# Altium footprint library XH2.54.PcbLib: 64 footprints (part 2 of 4)
Each footprint in its own frame and in the unit in brackets; x right, y up, seen from the top. Pads: shape width x height; smd on the part's side, far side on the other; paste and mask are expansions set on the pad; w line width, h text height; cw(c..) or ccw(c..) is an arc to the next point about the centre after c.
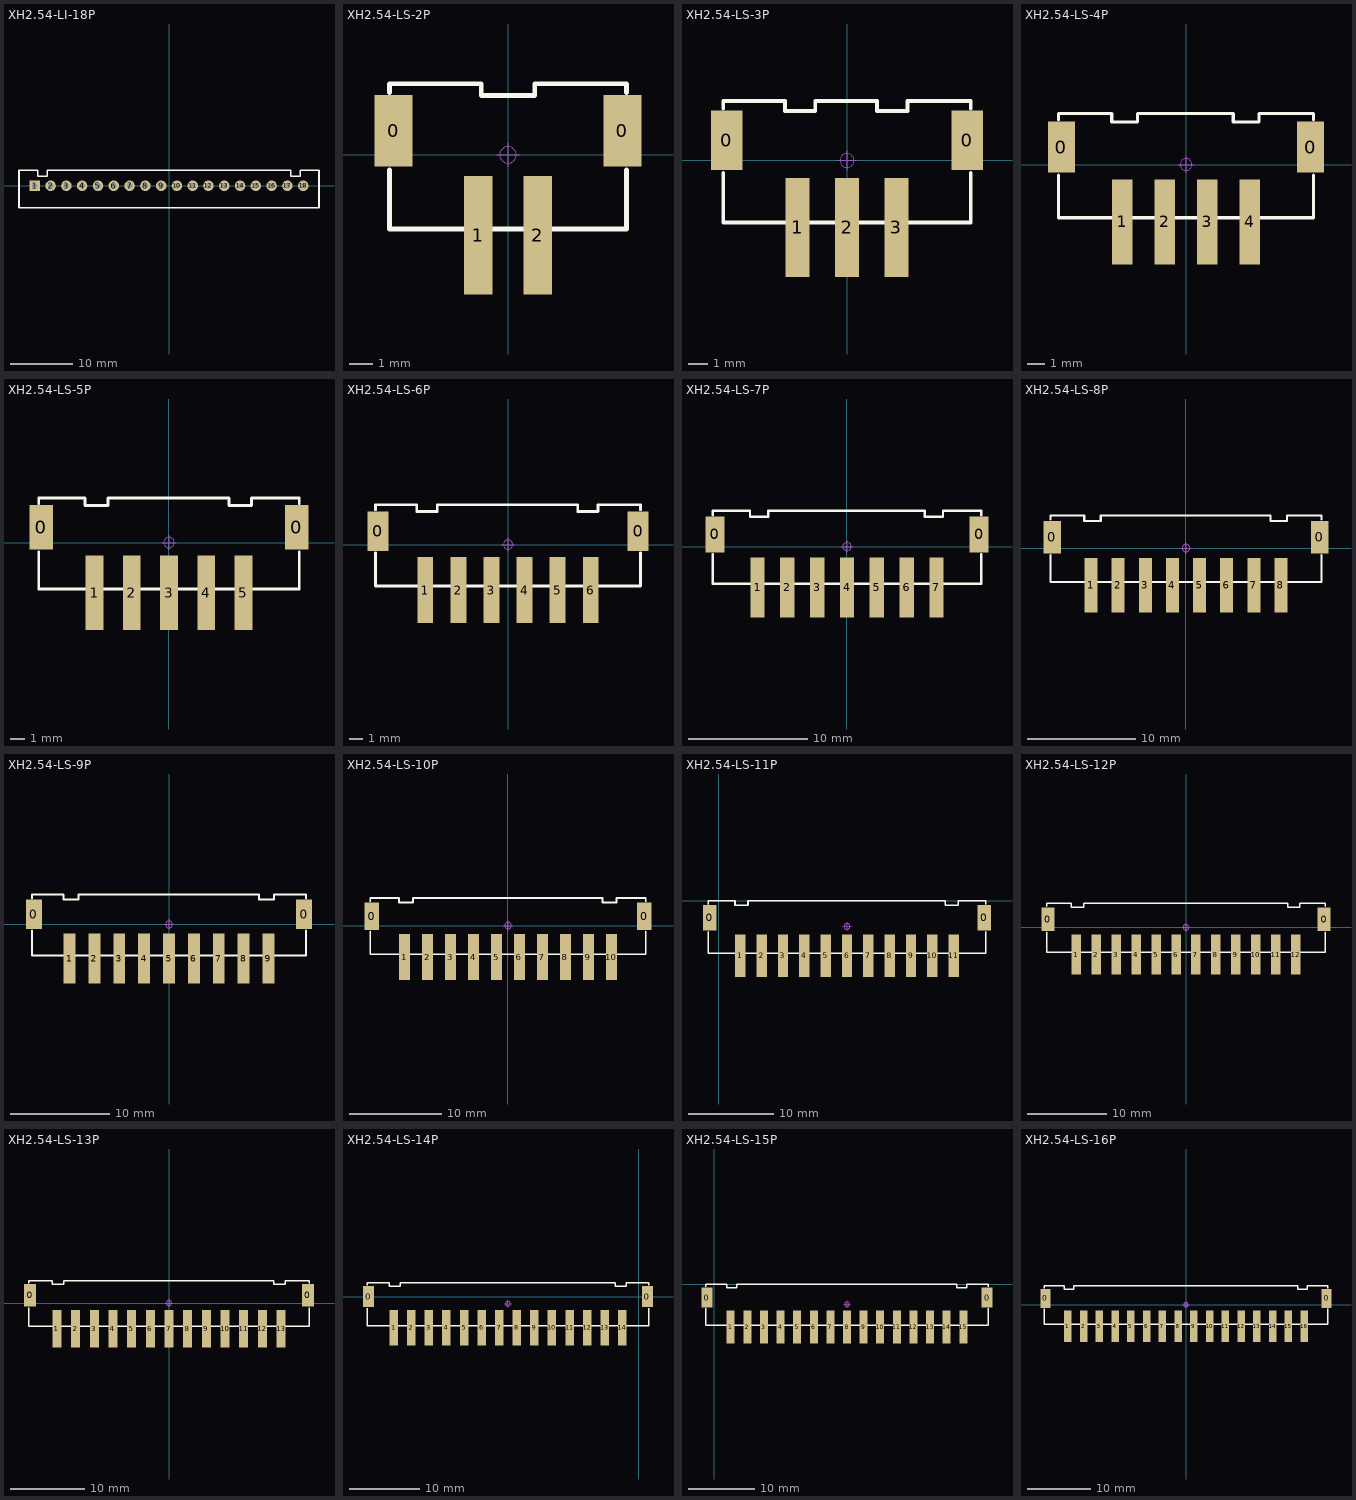
[diagram p1: the footprints below, top view; thin cyan lines are the x and y axes]

## XH2.54-LI-18P [mm] "接插件，18P"
pads (18):
  rect 1.7x1.7 hole 0.9: 1(-21.594,0)
  round 1.7 hole 0.9: 2(-19.042,0.013) 3(-16.502,0.013) 4(-13.974,0.019) 5(-11.422,0.013) 6(-8.882,0.013) 7(-6.342,0.013) 8(-3.802,0.013) 9(-1.262,0.013) 10(1.278,0.013) 11(3.806,0) 12(6.346,0) 13(8.89,0) 14(11.43,0) 15(13.97,0) 16(16.51,0) 17(19.05,0) 18(21.59,0)
Top Overlay:
  lines w0.254: -24.13,-3.556 -24.13,-2.016 -24.13,2.54 -21.086,2.54 -21.086,1.524 -19.562,1.524 -19.562,2.54 19.558,2.54 19.558,1.524 21.082,1.524 21.082,2.54 24.13,2.54 24.13,-3.556 -24.13,-3.556
3D body: height 7.05, standoff -2.45, extent -24.09,-3.3 24.09,2.4

## XH2.54-LS-2P [mm] "长：10mm，宽：6mm，高：8.3mm"
pads (4):
  rect 1.6x3 smd: 0(-4.826,1.016) 0(4.826,1.016)
  rect 1.2x5 smd: 1(-1.25,-3.383) 2(1.25,-3.383)
Top Overlay:
  lines w0.2: -5,-0.625 -5,-3.125 5,-3.125 5,-0.625 ; 5,2.625 5,3 1.125,3 1.125,2.5 -1.125,2.5 -1.125,3 -5,3 -5,2.625 ; -5,2.625 -5,2.625
Mechanical 15:
  circle w0.05: c0,0 r0.35
  lines w0.05: -0.5,0 0.5,0 ; 0,-0.5 0,0.5
3D body: height 8, standoff 0, extent -5,-6 5,3

## XH2.54-LS-3P [mm] "长：12.5mm，宽：6mm，高：8.3mm"
pads (5):
  rect 1.6x3 smd: 0(-6.076,1.016) 0(6.076,1.016)
  rect 1.2x5 smd: 1(-2.5,-3.383) 2(0,-3.383) 3(2.5,-3.383)
Top Overlay:
  lines w0.2: -6.25,-0.625 -6.25,-3.125 6.25,-3.125 6.25,-0.625 ; -6.25,2.625 -6.25,3 -3.128,3 -3.128,2.5 -1.604,2.5 -1.604,3 1.524,3 1.524,2.5 3.048,2.5 3.048,3 6.25,3 6.25,2.625
Mechanical 15:
  circle w0.05: c0,0 r0.35
  lines w0.05: -0.5,0 0.5,0 ; 0,-0.5 0,0.5
3D body: height 8, standoff 0, extent -6.25,-6 6.25,3

## XH2.54-LS-4P [mm] "长：15mm，宽：6mm，高：8.3mm"
pads (6):
  rect 1.6x3 smd: 0(-7.326,1.016) 0(7.326,1.016)
  rect 1.2x5 smd: 1(-3.75,-3.383) 2(-1.25,-3.383) 3(1.25,-3.383) 4(3.75,-3.383)
Top Overlay:
  lines w0.2: -7.5,-0.625 -7.5,-3.125 7.5,-3.125 ; -7.5,2.625 -7.5,3 -4.378,3 -4.378,2.5 -2.854,2.5 -2.854,3 2.774,3 2.774,2.5 4.298,2.5 4.298,3 7.5,3 7.5,2.625 ; 7.5,-3.125 7.5,-0.625
Mechanical 15:
  circle w0.05: c0,0 r0.35
  lines w0.05: -0.5,0 0.5,0 ; 0,-0.5 0,0.5
3D body: height 8, standoff 0, extent -7.5,-6 7.5,3

## XH2.54-LS-5P [mm] "长：17.5mm，宽：6mm，高：8.3mm"
pads (7):
  rect 1.6x3 smd: 0(-8.576,1.016) 0(8.576,1.016)
  rect 1.2x5 smd: 1(-5,-3.383) 2(-2.5,-3.383) 3(0,-3.383) 4(2.5,-3.383) 5(5,-3.383)
Top Overlay:
  lines w0.2: -8.75,-0.625 -8.75,-3.125 8.75,-3.125 8.75,-0.625 ; -8.75,2.625 -8.75,3 -5.628,3 -5.628,2.5 -4.104,2.5 -4.104,3 4.024,3 4.024,2.5 5.548,2.5 5.548,3 8.75,3 8.75,2.625
Mechanical 15:
  circle w0.05: c0,0 r0.35
  lines w0.05: -0.5,0 0.5,0 ; 0,-0.5 0,0.5
3D body: height 8, standoff 0, extent -8.75,-6 8.75,3

## XH2.54-LS-6P [mm] "长：20mm，宽：6mm，高：8.3mm"
pads (8):
  rect 1.6x3 smd: 0(-9.826,1.016) 0(9.826,1.016)
  rect 1.2x5 smd: 1(-6.25,-3.433) 2(-3.75,-3.433) 3(-1.25,-3.433) 4(1.25,-3.433) 5(3.75,-3.433) 6(6.25,-3.433)
Top Overlay:
  lines w0.2: -10,-0.625 -10,-3.125 10,-3.125 10,-0.625 ; -10,2.625 -10,3 -6.878,3 -6.878,2.5 -5.354,2.5 -5.354,3 5.274,3 5.274,2.5 6.798,2.5 6.798,3 10,3 10,2.625
Mechanical 15:
  circle w0.05: c0,0 r0.35
  lines w0.05: -0.5,0 0.5,0 ; 0,-0.5 0,0.5
3D body: height 8, standoff 0, extent -10,-6 10,3

## XH2.54-LS-7P [mm] "长：22.5mm，宽：6mm，高：8.3mm"
pads (9):
  rect 1.6x3 smd: 0(-11.076,1.016) 0(11.076,1.016)
  rect 1.2x5 smd: 1(-7.5,-3.433) 2(-5,-3.433) 3(-2.5,-3.433) 4(0,-3.433) 5(2.5,-3.433) 6(5,-3.433) 7(7.5,-3.433)
Top Overlay:
  lines w0.2: -11.25,-0.625 -11.25,-3.125 11.25,-3.125 11.25,-0.625 ; -11.25,2.625 -11.25,3 -8.128,3 -8.128,2.5 -6.604,2.5 -6.604,3 6.524,3 6.524,2.5 8.048,2.5 8.048,3 11.25,3 11.25,2.625
Mechanical 15:
  circle w0.05: c0,0 r0.35
  lines w0.05: -0.5,0 0.5,0 ; 0,-0.5 0,0.5
3D body: height 8, standoff 0, extent -11.25,-6 11.25,3

## XH2.54-LS-8P [mm] "长：25mm，宽：6mm，高：8.3mm"
pads (10):
  rect 1.6x3 smd: 0(-12.326,1.016) 0(12.326,1.016)
  rect 1.2x5 smd: 1(-8.75,-3.433) 2(-6.25,-3.433) 3(-3.75,-3.433) 4(-1.25,-3.433) 5(1.25,-3.433) 6(3.75,-3.433) 7(6.25,-3.433) 8(8.75,-3.433)
Top Overlay:
  lines w0.2: -12.5,-0.625 -12.5,-3.125 12.5,-3.125 12.5,-0.625 ; -12.5,2.625 -12.5,3 -9.378,3 -9.378,2.5 -7.854,2.5 -7.854,3 7.774,3 7.774,2.5 9.298,2.5 9.298,3 12.5,3 12.5,2.625
Mechanical 15:
  circle w0.05: c0,0 r0.35
  lines w0.05: -0.5,0 0.5,0 ; 0,-0.5 0,0.5
3D body: height 8, standoff 0, extent -12.5,-6 12.5,3

## XH2.54-LS-9P [mm] "长：27.5mm，宽：6mm，高：8.3mm"
pads (11):
  rect 1.6x3 smd: 0(-13.576,1.016) 0(13.576,1.016)
  rect 1.2x5 smd: 1(-10,-3.433) 2(-7.5,-3.433) 3(-5,-3.433) 4(-2.5,-3.433) 5(0,-3.433) 6(2.5,-3.433) 7(5,-3.433) 8(7.5,-3.433) 9(10,-3.433)
Top Overlay:
  lines w0.2: -13.75,-0.625 -13.75,-3.125 13.75,-3.125 13.75,-0.625 ; -13.75,2.625 -13.75,3 -10.628,3 -10.628,2.5 -9.104,2.5 -9.104,3 9.024,3 9.024,2.5 10.548,2.5 10.548,3 13.75,3 13.75,2.625
Mechanical 15:
  circle w0.05: c0,0 r0.35
  lines w0.05: -0.5,0 0.5,0 ; 0,-0.5 0,0.5
3D body: height 8, standoff 0, extent -13.75,-6 13.75,3

## XH2.54-LS-10P [mm] "长：30mm，宽：6mm，高：8.3mm"
pads (12):
  rect 1.6x3 smd: 0(-14.826,1.016) 0(14.826,1.016)
  rect 1.2x5 smd: 1(-11.25,-3.433) 2(-8.75,-3.433) 3(-6.25,-3.433) 4(-3.75,-3.433) 5(-1.25,-3.433) 6(1.25,-3.433) 7(3.75,-3.433) 8(6.25,-3.433) 9(8.75,-3.433) 10(11.25,-3.433)
Top Overlay:
  lines w0.2: -15,-0.625 -15,-3.125 15,-3.125 15,-0.625 ; -15,2.625 -15,3 -11.878,3 -11.878,2.5 -10.354,2.5 -10.354,3 10.274,3 10.274,2.5 11.798,2.5 11.798,3 15,3 15,2.625
Mechanical 15:
  circle w0.05: c0,0 r0.35
  lines w0.05: -0.5,0 0.5,0 ; 0,-0.5 0,0.5
3D body: height 8, standoff 0, extent -15,-6 15,3

## XH2.54-LS-11P [mm] "长：32.5mm，宽：6mm，高：8.3mm"
pads (13):
  rect 1.6x3 smd: 0(-1.076,-1.984) 0(31.076,-1.984)
  rect 1.2x5 smd: 1(2.5,-6.433) 2(5,-6.433) 3(7.5,-6.433) 4(10,-6.433) 5(12.5,-6.433) 6(15,-6.433) 7(17.5,-6.433) 8(20,-6.433) 9(22.5,-6.433) 10(25,-6.433) 11(27.5,-6.433)
Top Overlay:
  lines w0.2: -1.25,-3.625 -1.25,-6.125 31.25,-6.125 31.25,-3.625 ; -1.25,-0.375 -1.25,0 1.872,0 1.872,-0.5 3.396,-0.5 3.396,0 26.524,0 26.524,-0.5 28.048,-0.5 28.048,0 31.25,0 31.25,-0.375
Mechanical 15:
  circle w0.05: c15,-3 r0.35
  lines w0.05: 14.5,-3 15.5,-3 ; 15,-3.5 15,-2.5
3D body: height 8, standoff 0, extent -1.25,-9 31.25,0

## XH2.54-LS-12P [mm] "长：35mm，宽：6mm，高：8.3mm"
pads (14):
  rect 1.6x3 smd: 0(-17.326,1.016) 0(17.326,1.016)
  rect 1.2x5 smd: 1(-13.75,-3.433) 2(-11.25,-3.433) 3(-8.75,-3.433) 4(-6.25,-3.433) 5(-3.75,-3.433) 6(-1.25,-3.433) 7(1.25,-3.433) 8(3.75,-3.433) 9(6.25,-3.433) 10(8.75,-3.433) 11(11.25,-3.433) 12(13.75,-3.433)
Top Overlay:
  lines w0.2: -17.5,-0.625 -17.5,-3.125 17.5,-3.125 17.5,-0.625 ; -17.5,2.625 -17.5,3 -14.378,3 -14.378,2.5 -12.854,2.5 -12.854,3 12.774,3 12.774,2.5 14.298,2.5 14.298,3 17.5,3 17.5,2.625
Mechanical 15:
  circle w0.05: c0,0 r0.35
  lines w0.05: -0.5,0 0.5,0 ; 0,-0.5 0,0.5
3D body: height 8, standoff 0, extent -17.5,-6 17.5,3

## XH2.54-LS-13P [mm] "长：37.5mm，宽：6mm，高：8.3mm"
pads (15):
  rect 1.6x3 smd: 0(-18.576,1.016) 0(18.576,1.016)
  rect 1.2x5 smd: 1(-15,-3.433) 2(-12.5,-3.433) 3(-10,-3.433) 4(-7.5,-3.433) 5(-5,-3.433) 6(-2.5,-3.433) 7(0,-3.433) 8(2.5,-3.433) 9(5,-3.433) 10(7.5,-3.433) 11(10,-3.433) 12(12.5,-3.433) 13(15,-3.433)
Top Overlay:
  lines w0.2: -18.75,-0.625 -18.75,-3.125 18.75,-3.125 18.75,-0.625 ; -18.75,2.625 -18.75,3 -15.628,3 -15.628,2.5 -14.104,2.5 -14.104,3 14.024,3 14.024,2.5 15.548,2.5 15.548,3 18.75,3 18.75,2.625
Mechanical 15:
  circle w0.05: c0,0 r0.35
  lines w0.05: -0.5,0 0.5,0 ; 0,-0.5 0,0.5
3D body: height 8, standoff 0, extent -18.75,-6 18.75,3

## XH2.54-LS-14P [mm] "长：40mm，宽：6mm，高：8.3mm"
pads (16):
  rect 1.6x3 smd: 0(-38.402,0) 0(1.25,0)
  rect 1.2x5 smd: 1(-34.826,-4.449) 2(-32.326,-4.449) 3(-29.826,-4.449) 4(-27.326,-4.449) 5(-24.826,-4.449) 6(-22.326,-4.449) 7(-19.826,-4.449) 8(-17.326,-4.449) 9(-14.826,-4.449) 10(-12.326,-4.449) 11(-9.826,-4.449) 12(-7.326,-4.449) 13(-4.826,-4.449) 14(-2.326,-4.449)
Top Overlay:
  lines w0.2: -38.576,-1.641 -38.576,-4.141 1.424,-4.141 1.424,-1.641 ; -38.576,1.609 -38.576,1.984 -35.454,1.984 -35.454,1.484 -33.93,1.484 -33.93,1.984 -3.302,1.984 -3.302,1.484 -1.778,1.484 -1.778,1.984 1.424,1.984 1.424,1.609
Mechanical 15:
  circle w0.05: c-18.576,-1.016 r0.35
  lines w0.05: -19.076,-1.016 -18.076,-1.016 ; -18.576,-1.516 -18.576,-0.516
3D body: height 8, standoff 0, extent -38.576,-7.016 1.424,1.984

## XH2.54-LS-15P [mm] "长：42.5mm，宽：6mm，高：8.3mm"
pads (17):
  rect 1.6x3 smd: 0(-1.076,-1.984) 0(41.076,-1.984)
  rect 1.2x5 smd: 1(2.5,-6.433) 2(5,-6.433) 3(7.5,-6.433) 4(10,-6.433) 5(12.5,-6.433) 6(15,-6.433) 7(17.5,-6.433) 8(20,-6.433) 9(22.5,-6.433) 10(25,-6.433) 11(27.5,-6.433) 12(30,-6.433) 13(32.5,-6.433) 14(35,-6.433) 15(37.5,-6.433)
Top Overlay:
  lines w0.2: -1.25,-3.625 -1.25,-6.125 41.25,-6.125 41.25,-3.625 ; -1.25,-0.375 -1.25,0 1.872,0 1.872,-0.5 3.396,-0.5 3.396,0 36.524,0 36.524,-0.5 38.048,-0.5 38.048,0 41.25,0 41.25,-0.375
Mechanical 15:
  circle w0.05: c20,-3 r0.35
  lines w0.05: 19.5,-3 20.5,-3 ; 20,-3.5 20,-2.5
3D body: height 8, standoff 0, extent -1.25,-9 41.25,0

## XH2.54-LS-16P [mm] "长：45mm，宽：6mm，高：8.3mm"
pads (18):
  rect 1.6x3 smd: 0(-22.326,1.016) 0(22.326,1.016)
  rect 1.2x5 smd: 1(-18.75,-3.433) 2(-16.25,-3.433) 3(-13.75,-3.433) 4(-11.25,-3.433) 5(-8.75,-3.433) 6(-6.25,-3.433) 7(-3.75,-3.433) 8(-1.25,-3.433) 9(1.25,-3.433) 10(3.75,-3.433) 11(6.25,-3.433) 12(8.75,-3.433) 13(11.25,-3.433) 14(13.75,-3.433) 15(16.25,-3.433) 16(18.75,-3.433)
Top Overlay:
  lines w0.2: -22.5,-0.625 -22.5,-3.125 22.5,-3.125 22.5,-0.625 ; -22.5,2.625 -22.5,3 -19.378,3 -19.378,2.5 -17.854,2.5 -17.854,3 17.774,3 17.774,2.5 19.298,2.5 19.298,3 22.5,3 22.5,2.625
Mechanical 15:
  circle w0.05: c0,0 r0.35
  lines w0.05: -0.5,0 0.5,0 ; 0,-0.5 0,0.5
3D body: height 8, standoff 0, extent -22.5,-6 22.5,3